# Altium footprint library LED_RGB.PcbLib: 1 footprints
Each footprint in its own frame and in the unit in brackets; x right, y up, seen from the top. Pads: shape width x height; smd on the part's side, far side on the other; paste and mask are expansions set on the pad; w line width, h text height; cw(c..) or ccw(c..) is an arc to the next point about the centre after c.
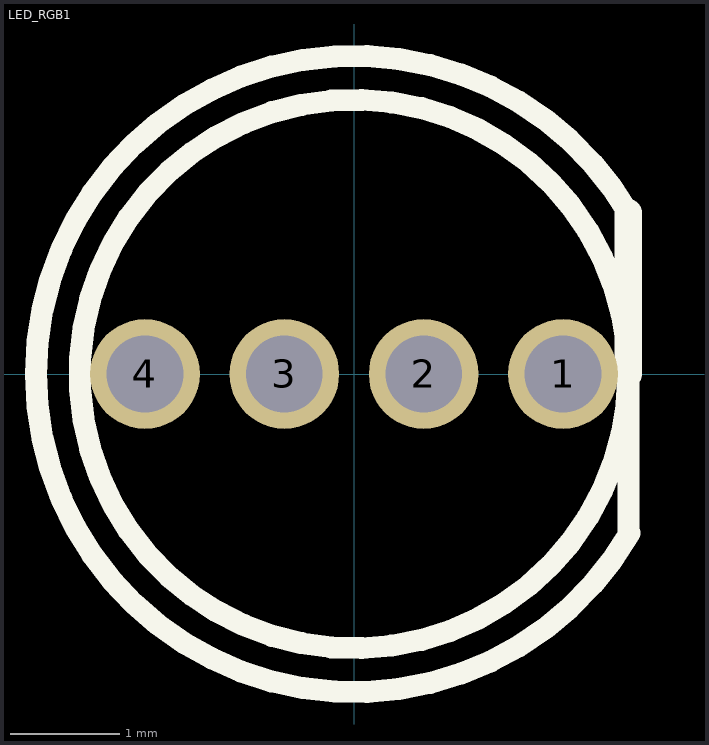
[diagram p0: the footprint, top view; thin cyan lines are the x and y axes]

## LED_RGB1 [mm] "Common Anode"
pads (4):
  round 1 hole 0.7: 1(1.905,0) 2(0.635,0) 3(-0.635,0) 4(-1.905,0)
Top Overlay:
  circle w0.2: c0,0 r2.5
  lines w0.2: 2.5,-1.45 2.5,1.47 ; 2.511,-1.45 cw(c0,0) 2.511,1.45
  lines w0.254: 2.5,0 2.5,1.47